# Altium schematic symbol library SN75DP159RSBR.SchLib: 1 symbol
Pins are listed as number, name and electrical type; pins without a type are passive.

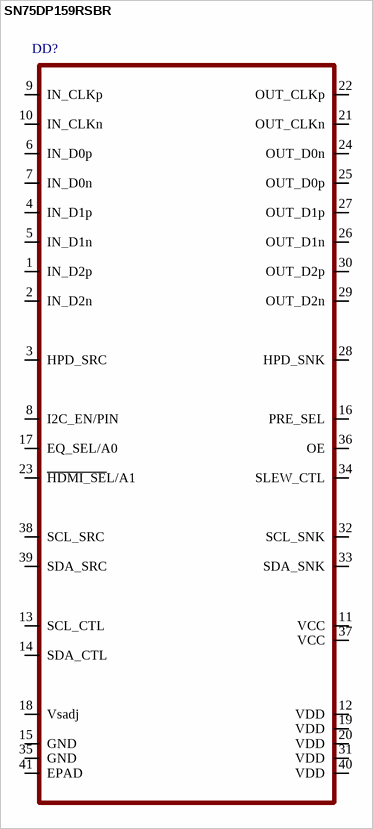
[diagram p0: symbol SN75DP159RSBR]

## SN75DP159RSBR
designator DD?
pins: 1 IN_D2p, 2 IN_D2n, 3 HPD_SRC, 4 IN_D1p, 5 IN_D1n, 6 IN_D0p, 7 IN_D0n, 8 I2C_EN/PIN, 9 IN_CLKp, 10 IN_CLKn, 11 VCC, 12 VDD, 13 SCL_CTL, 14 SDA_CTL, 15 GND, 16 PRE_SEL, 17 EQ_SEL/A0, 18 Vsadj, 19 VDD, 20 VDD, 21 OUT_CLKn, 22 OUT_CLKp, 23 ~{HDMI_SE}L/A1, 24 OUT_D0n, 25 OUT_D0p, 26 OUT_D1n, 27 OUT_D1p, 28 HPD_SNK, 29 OUT_D2n, 30 OUT_D2p, 31 VDD, 32 SCL_SNK, 33 SDA_SNK, 34 SLEW_CTL, 35 GND, 36 OE, 37 VCC, 38 SCL_SRC, 39 SDA_SRC, 40 VDD, 41 EPAD